# EAGLE library part MMC5883MA (library SamacSys_Parts)
Board Mount Hall Effect / Magnetic Sensors AMR Magnetic Sensor 3 Axis Source: Datasheet <https://componentsearchengine.com/Datasheets/1/MMC5883MA.pdf>
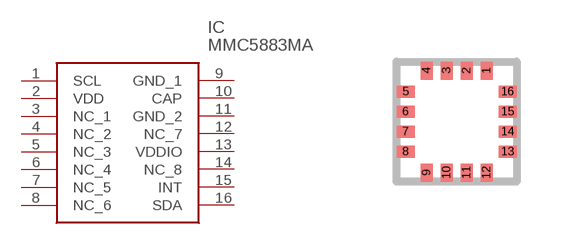
[diagram p1: symbol with the pads of MEMSIC_LGA-16; footprint MEMSIC_LGA-16]

Designator prefix IC

## MMC5883MA (Description: Board Mount Hall Effect / Magnetic Sensors AMR Magnetic Sensor 3 Axis; Height: mm; Manufacturer_Name: MEMSIC; Manufacturer_Part_Number: MMC5883MA; Mouser_Part_Number: 438-MMC5883MA)  [MEMSIC_LGA-16]
1  SCL
2  VDD  pwr
3  NC_1
4  NC_2
5  NC_3
6  NC_4
7  NC_5
8  NC_6
9  GND_1  pwr
10  CAP
11  GND_2  pwr
12  NC_7
13  VDDIO
14  NC_8
15  INT
16  SDA

## Footprint MEMSIC_LGA-16 (pad centres in mm)
MEMSIC_LGA-16
smd 0.3 x 0.45: 1 0.75,1.275; 2 0.25,1.275; 3 -0.25,1.275; 4 -0.75,1.275; 9 -0.75,-1.275; 10 -0.25,-1.275; 11 0.25,-1.275; 12 0.75,-1.275
smd 0.45 x 0.3: 5 -1.275,0.75; 6 -1.275,0.25; 7 -1.275,-0.25; 8 -1.275,-0.75; 13 1.275,-0.75; 14 1.275,-0.25; 15 1.275,0.25; 16 1.275,0.75